# EAGLE library part ECH81 (library radiotubes)
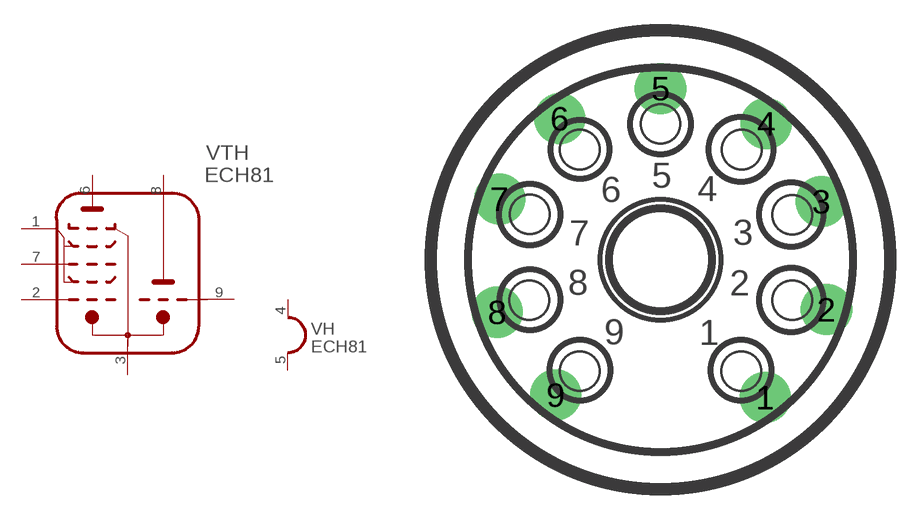
[diagram p87: symbol with the pads of NOVAL; footprint NOVAL]

Designator prefix V; gates TH=TRI-HEP H=HEATER_1

## ECH81  [NOVAL]
1  TH:HSG  pas
2  TH:HG1  pas
3  TH:K  pas
4  H:H1  pas
5  H:H2  pas
6  TH:HA  pas
7  TH:HG3  pas
8  TH:TA  pas
9  TH:TG  pas

## Footprint NOVAL (pad centres in mm)
drill 1.422 pad 2.54: 1 5.207,-6.858; 2 8.254,-2.484; 3 8.004,2.893; 4 5.258,6.77; 5 0,8.524; 6 -5.004,7.024; 7 -8.004,3.02; 8 -8.127,-2.611; 9 -5.207,-6.731